# Altium schematic symbol library ATmega2560-16AU.SchLib: 1 symbol
Pins are listed as number, name and electrical type; pins without a type are passive.

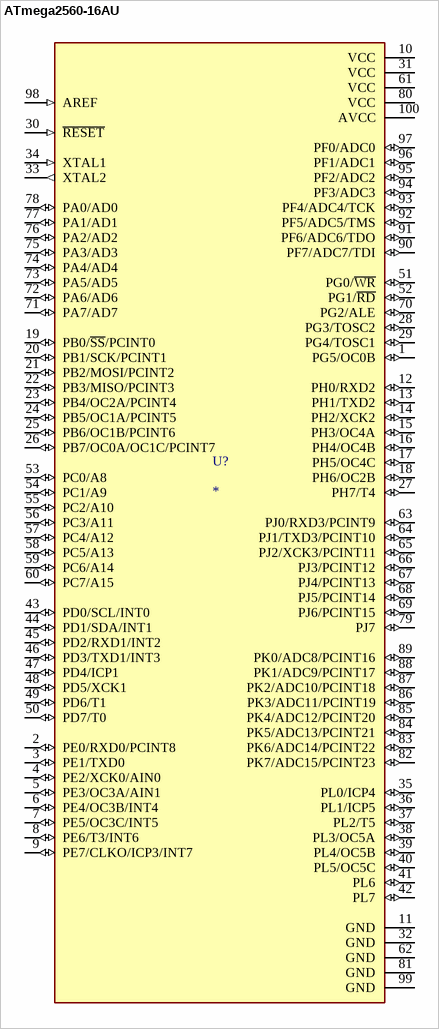
[diagram p0: symbol ATmega2560-16AU]

## ATmega2560-16AU
designator U?
MP: ATmega2560-16AU; Package: None; Price: None; Value: *; Availability: Unavailable
footprint QFP50P1600X1600X120-100N
pins: 1 PG5/OC0B (io), 2 PE0/RXD0/PCINT8 (io), 3 PE1/TXD0 (io), 4 PE2/XCK0/AIN0 (io), 5 PE3/OC3A/AIN1 (io), 6 PE4/OC3B/INT4 (io), 7 PE5/OC3C/INT5 (io), 8 PE6/T3/INT6 (io), 9 PE7/CLKO/ICP3/INT7 (io), 10 VCC (power), 11 GND (power), 12 PH0/RXD2 (io), 13 PH1/TXD2 (io), 14 PH2/XCK2 (io), 15 PH3/OC4A (io), 16 PH4/OC4B (io), 17 PH5/OC4C (io), 18 PH6/OC2B (io), 19 PB0/~{SS}/PCINT0 (io), 20 PB1/SCK/PCINT1 (io), 21 PB2/MOSI/PCINT2 (io), 22 PB3/MISO/PCINT3 (io), 23 PB4/OC2A/PCINT4 (io), 24 PB5/OC1A/PCINT5 (io), 25 PB6/OC1B/PCINT6 (io), 26 PB7/OC0A/OC1C/PCINT7 (io), 27 PH7/T4 (io), 28 PG3/TOSC2 (io), 29 PG4/TOSC1 (io), 30 ~{RESET} (in), 31 VCC (power), 32 GND (power), 33 XTAL2 (out), 34 XTAL1 (in), 35 PL0/ICP4 (io), 36 PL1/ICP5 (io), 37 PL2/T5 (io), 38 PL3/OC5A (io), 39 PL4/OC5B (io), 40 PL5/OC5C (io), 41 PL6 (io), 42 PL7 (io), 43 PD0/SCL/INT0 (io), 44 PD1/SDA/INT1 (io), 45 PD2/RXD1/INT2 (io), 46 PD3/TXD1/INT3 (io), 47 PD4/ICP1 (io), 48 PD5/XCK1 (io), 49 PD6/T1 (io), 50 PD7/T0 (io), 51 PG0/~{WR} (io), 52 PG1/~{RD} (io), 53 PC0/A8 (io), 54 PC1/A9 (io), 55 PC2/A10 (io), 56 PC3/A11 (io), 57 PC4/A12 (io), 58 PC5/A13 (io), 59 PC6/A14 (io), 60 PC7/A15 (io), 61 VCC (power), 62 GND (power), 63 PJ0/RXD3/PCINT9 (io), 64 PJ1/TXD3/PCINT10 (io), 65 PJ2/XCK3/PCINT11 (io), 66 PJ3/PCINT12 (io), 67 PJ4/PCINT13 (io), 68 PJ5/PCINT14 (io), 69 PJ6/PCINT15 (io), 70 PG2/ALE (io), 71 PA7/AD7 (io), 72 PA6/AD6 (io), 73 PA5/AD5 (io), 74 PA4/AD4 (io), 75 PA3/AD3 (io), 76 PA2/AD2 (io), 77 PA1/AD1 (io), 78 PA0/AD0 (io), 79 PJ7 (io), 80 VCC (power), 81 GND (power), 82 PK7/ADC15/PCINT23 (io), 83 PK6/ADC14/PCINT22 (io), 84 PK5/ADC13/PCINT21 (io), 85 PK4/ADC12/PCINT20 (io), 86 PK3/ADC11/PCINT19 (io), 87 PK2/ADC10/PCINT18 (io), 88 PK1/ADC9/PCINT17 (io), 89 PK0/ADC8/PCINT16 (io), 90 PF7/ADC7/TDI (io), 91 PF6/ADC6/TDO (io), 92 PF5/ADC5/TMS (io), 93 PF4/ADC4/TCK (io), 94 PF3/ADC3 (io), 95 PF2/ADC2 (io), 96 PF1/ADC1 (io), 97 PF0/ADC0 (io), 98 AREF (in), 99 GND (power), 100 AVCC (power)